# Altium schematic symbol library ebf EP4CE10 Pro_20200309_原理图库_AD格式.SCHLIB: 136 symbols (part 2 of 2)
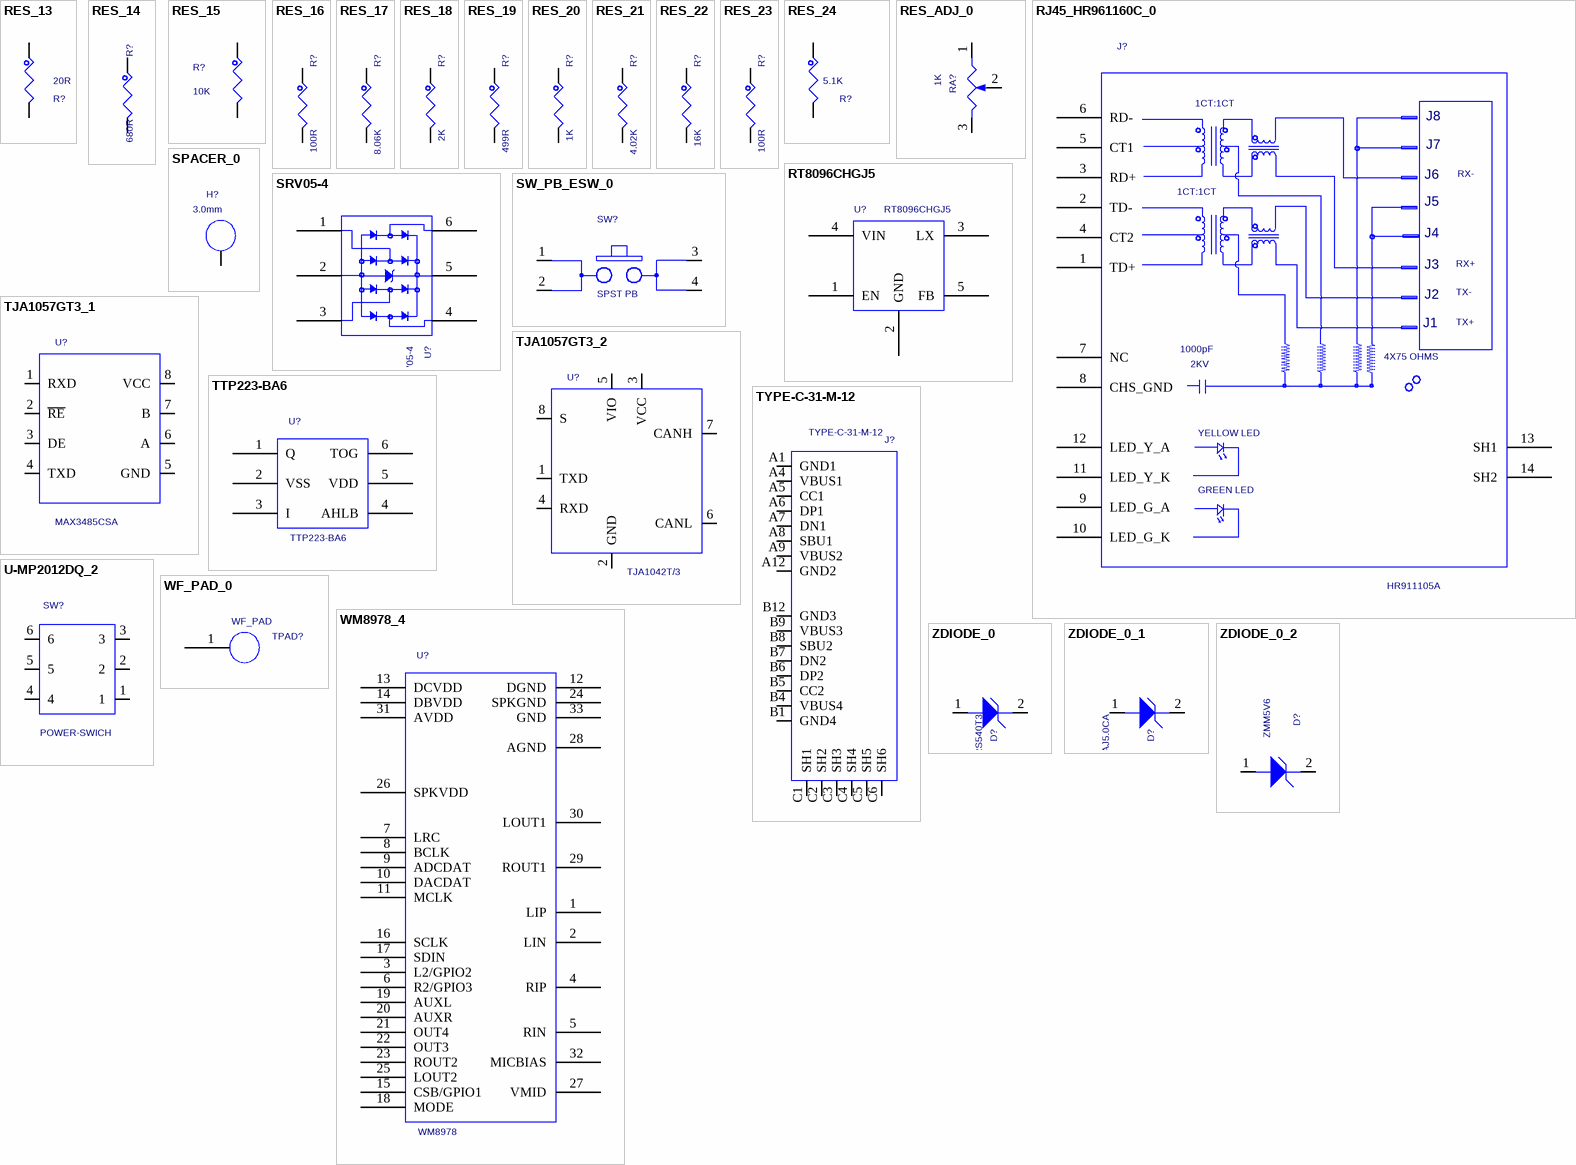
[diagram p5: symbols RES_13 to ZDIODE_0_2]

## RES_24
designator R?, comment value 5.1K  (hidden comment: RES)
RES MF ZERO OHM 1/16W 5% 0402; AGILE_PN: 470-75394; MFG_NAME01: ROHM; MFG_PN01: MCR01MZPJ000; CAD_APPROVED: Yes; FPLIST: RC0402_25,RC0402_HD,RC0402_X2,0402_CC; PCB DECAL: R0603; Source_Path: Q:\ORCADCIS\SYMBOLS\FCL_RESISTOR.OLB; CLASS: DISCRETE; HEIGHT: 0.45 MM; Tolerance: 5%; ROHS: Yes
footprint R0603
pins: 1, 2

## RES_ADJ_0
designator RA?  value 1K  (hidden comment: RES_ADJ_0)
Single Turn Top Adjust, 3362P; Partname: DIP可调电阻 3362; Mfr: Bourns; Mfr_Part_Number: 3362P-1-203LF; Part_Number: RE700010-01; Spec: 20K,3362P-1-203LF(Bourns); Remarks: Checked; Gtech_Number: 50700011202KR0201; Power: 1/2W; PCB DECAL: RM065-V1; Source_Path: D:\NXP_RT1050\PCB\IMXRT1052-180207\SCH\RT1050_MB_PRO\IMXRT1052_MB_PRO_0502.DSN
footprint RM065-V1
pins: 1, 2, 3

## RJ45_HR961160C_0
designator J?  value HR911105A  (hidden comment: RJ45_HR961160C_0)
CON 12 RJ45 SHLD RA SM 1.02MM SP 625H --; CAD_APPROVED: Yes; MFG_NAME01: HanRun Electronics Co., Ltd; AGILE_PN: 211-79967; Source_Path: H:\NXP_RT1050\SCH\IMXRT1052_MB.DSN; CLASS: IO; HEIGHT: 15.88 MM; ROHS: Yes; MFG_PN01: HR961160C; PCB DECAL: RJ45
footprint RJ45
pins: 1 TD+, 2 TD-, 3 RD+, 4 CT2, 5 CT1, 6 RD-, 7 NC, 8 CHS_GND, 9 LED_G_A, 10 LED_G_K, 11 LED_Y_K, 12 LED_Y_A, 13 SH1, 14 SH2
text: 1CT:1CT; J8; J7; RX-; J6; J5; J4; RX+; J3; TX-; J2; TX+; J1; 1000pF; 4X75 OHMS; 2KV; YELLOW LED; GREEN LED

## RT8096CHGJ5
designator U?
PCB DECAL: TSOT-23-5; Source_Path: F:\SCH-PCB\EBF_L001\SCH\LIBRARY1.OLB; Value: RT8096CHGJ5
footprint TSOT-23-5
pins: 1 EN, 2 GND, 3 LX, 4 VIN, 5 FB

## SPACER_0
designator H?  value 3.0mm  (hidden comment: SPACER_0)
FASTENER, STANDOFF 4.5MMX3.53XM3.0X0.5 ROUND THR .635"L BRASS; AGILE_PN: 280-76498; MFG_NAME01: UNICORP; MFG_PN01: MSS251-R-1-A-16; ASSY_OPT: DNP; CAD_APPROVED: Yes; PCB DECAL: T4R2-6R2_TOPSMT; Source_Path: H:\NXP_RT1050\SCH\IMXRT1052.DSN; CLASS: IC; ROHS: Yes; HEIGHT: 16.13MM
footprint T4R2-6R2_TOPSMT
pins: 1 NC_1

## SRV05-4
designator U?
DIODE TVS ARRAY 12A 5V 300W SOT23_S6; AGILE_PN: 480-75205; MFG_NAME01: SEMTECH CORP; MFG_PN01: SRV05-4.TCT; ASSY_OPT: DNP; CAD_APPROVED: Yes; Source_Path: Q:\ORCADCIS\SYMBOLS\FCL_SEMICONDUCTOR.OLB; CLASS: IC; ROHS: Yes; HEIGHT: 1.45mm; PCB DECAL: SOT23_S6; Value: SRV05-4
footprint SOT23_S6
pins: 1 I/O1, 2 GND, 3 I/O3, 4 I/O4, 5 VCC, 6 I/O6

## SW_PB_ESW_0
designator SW?  value SPST PB  (hidden comment: SW_PB_ESW_0)
SW SPST MOM NO PB TACT 50mA 50V SMT; AGILE_PN: 510-77562; MFG_NAME01: E SWITCH; MFG_PN01: TL3301AF260QG/TR; CAD_APPROVED: Yes; PCB DECAL: SW4_PB_ESW_SM_P177; Source_Path: H:\NXP_RT1050\SCH\IMXRT1052_MB.DSN; CLASS: IC; ROHS: Yes; HEIGHT: 5MM
footprint SW4_PB_ESW_SM_P177
pins: 1 A1, 2 A2, 3 B1, 4 B2

## TJA1057GT3_1
designator U?  value MAX3485CSA  (hidden comment: TJA1057GT3_1)
IC XCVR CAN 4.75-5.25V/2.95-5.25V AEC-Q100 SO8; AGILE_PN: 312-81479; MFG_NAME01: NXP SEMICONDUCTORS; MFG_PN01: TJA1057GT/3; CAD_APPROVED: Yes; PCB DECAL: SOP8; Source_Path: H:\NXP_RT1050\SCH\IMXRT1052_MB.DSN; ROHS: Yes; HEIGHT: 1.75MM; CLASS: IC
footprint SOP8
pins: 1 RXD, 2 ~{RE}, 3 DE, 4 TXD, 5 GND, 6 A, 7 B, 8 VCC

## TJA1057GT3_2
designator U?  value TJA1042T/3  (hidden comment: TJA1057GT3_2)
IC XCVR CAN 4.75-5.25V/2.95-5.25V AEC-Q100 SO8; AGILE_PN: 312-81479; MFG_NAME01: NXP SEMICONDUCTORS; MFG_PN01: TJA1057GT/3; CAD_APPROVED: Yes; PCB DECAL: SOP8; Source_Path: F:\STM32\F407\F407 PRO\SCH\STM32F407_PRO.DSN; ROHS: Yes; HEIGHT: 1.75MM; CLASS: IC
footprint SOP8
pins: 1 TXD, 2 GND (power), 3 VCC (power), 4 RXD, 5 VIO (power), 6 CANL (io), 7 CANH (io), 8 S

## TTP223-BA6
designator U?
PCB DECAL: SOT23-6; Source_Path: F:\SCH-PCB\FPGA\EBF_F002\SCH\EBF_F002.OLB; Value: TTP223-BA6
footprint SOT23-6
pins: 1 Q, 2 VSS, 3 I, 4 AHLB, 5 VDD, 6 TOG

## TYPE-C-31-M-12
designator J?
Source_Path: C:\MYPROGRAM\CADENCE\SPB_16.6\TOOLS\CAPTURE\LIBRARY\SCH.OLB; PCB DECAL: TYPE-C-31-M-12; Value: TYPE-C-31-M-12
footprint TYPE-C-31-M-12
pins: A1 GND1, A4 VBUS1, A5 CC1, A6 DP1, A7 DN1, A8 SBU1, A9 VBUS2, A12 GND2, B1 GND4, B4 VBUS4, B5 CC2, B6 DP2, B7 DN2, B8 SBU2, B9 VBUS3, B12 GND3, C1 SH1, C2 SH2, C3 SH3, C4 SH4, C5 SH5, C6 SH6

## U-MP2012DQ_2
designator SW?  value POWER-SWICH  (hidden comment: U-MP2012DQ_2)
PCB DECAL: SWITCH_DDSZ; Source_Path: H:\NXP_RT1050\SCH\IMXRT1052_MB.DSN
footprint SWITCH_DDSZ
pins: 1, 2, 3, 4, 5, 6

## WF_PAD_0
designator TPAD?  value WF_PAD  (hidden comment: WF_PAD_0)
Source_Path: H:\NXP_RT1050\SCH\IMXRT1052_MB.DSN; PCB DECAL: WF_PAD
footprint WF_PAD
pins: 1

## WM8978_4
designator U?  value WM8978  (hidden comment: WM8978_4)
PCB DECAL: QFN32; Source_Path: F:\STM32\LITEOS开发板\SCH\LITEOS_EVK.DSN
footprint QFN32
pins: 1 LIP, 2 LIN, 3 L2/GPIO2, 4 RIP, 5 RIN, 6 R2/GPIO3, 7 LRC, 8 BCLK, 9 ADCDAT, 10 DACDAT, 11 MCLK, 12 DGND, 13 DCVDD, 14 DBVDD, 15 CSB/GPIO1, 16 SCLK, 17 SDIN, 18 MODE, 19 AUXL, 20 AUXR, 21 OUT4, 22 OUT3, 23 ROUT2, 24 SPKGND, 25 LOUT2, 26 SPKVDD, 27 VMID, 28 AGND, 29 ROUT1, 30 LOUT1, 31 AVDD, 32 MICBIAS, 33 GND

## ZDIODE_0
designator D?  value MBRS540T3  (hidden comment: ZDIODE_0)
DIODE ZNR -- 0.2W 5.1V AEC-Q101 SOD523; AGILE_PN: 480-77217; MFG_NAME01: ON SEMICONDUCTOR; MFG_PN01: MM5Z5V1ST1G; CAD_APPROVED: Yes; PCB DECAL: SMC; Source_Path: H:\NXP_RT1050\SCH\IMXRT1052_MB.DSN; CLASS: IC; ROHS: Yes; HEIGHT: 0.7MM
footprint SMC
pins: 1 ANODE, 2 CATHODE

## ZDIODE_0_1
designator D?, comment value SMAJ5.0CA  (hidden comment: ZDIODE_0)
DIODE ZNR -- 0.2W 5.1V AEC-Q101 SOD523; CAD_APPROVED: Yes; MFG_PN01: MM5Z5V1ST1G; MFG_NAME01: ON SEMICONDUCTOR; AGILE_PN: 480-77217; PCB DECAL: DO214; Source_Path: H:\NXP_RT1050\SCH\IMXRT1052_MB.DSN; CLASS: IC; HEIGHT: 0.7MM; ROHS: Yes
footprint DO214
pins: 1 ANODE, 2 CATHODE

## ZDIODE_0_2
designator D?, comment value ZMM5V6  (hidden comment: ZDIODE_0)
DIODE ZNR -- 0.2W 5.1V AEC-Q101 SOD523; AGILE_PN: 480-77217; MFG_NAME01: ON SEMICONDUCTOR; MFG_PN01: MM5Z5V1ST1G; CAD_APPROVED: Yes; PCB DECAL: D1206; Source_Path: H:\NXP_RT1050\SCH\IMXRT1052_MB.DSN; CLASS: IC; ROHS: Yes; HEIGHT: 0.7MM
footprint D1206
pins: 1 ANODE, 2 CATHODE